# EAGLE library part DF3-10 (library con-hirose)
Single row connector 2mm 10 way
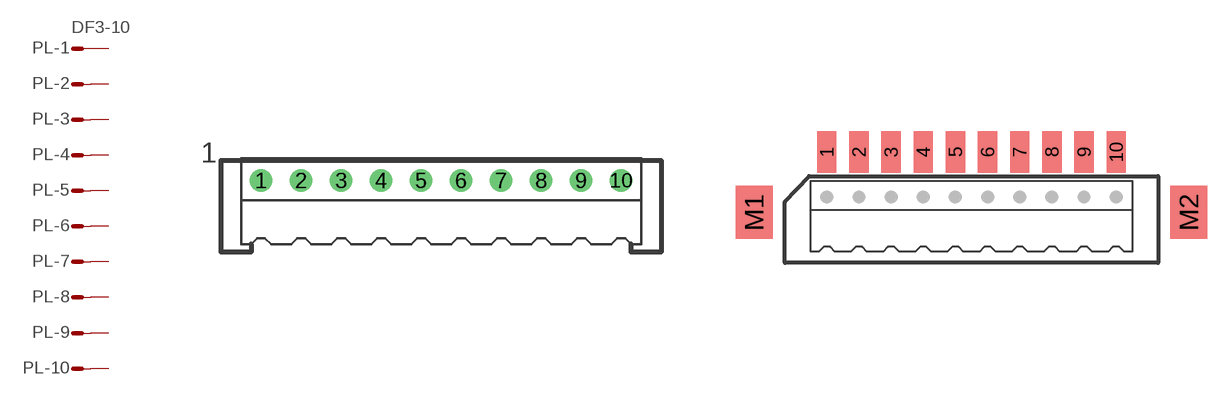
[diagram p9: symbol with the pads of DF3P-10; footprints DF3P-10, DF3DZ-10]

Designator prefix PL; gates -1=MV -2=M -3=M -4=M -5=M -6=M -7=M -8=M -9=M -10=M

## DF3-10P  [DF3P-10]
1  -1:S  pas
2  -2:S  pas
3  -3:S  pas
4  -4:S  pas
5  -5:S  pas
6  -6:S  pas
7  -7:S  pas
8  -8:S  pas
9  -9:S  pas
10  -10:S  pas

## DF3-10DZ  [DF3DZ-10]
Pads as for DF3P-10

## DF3-10R  [DF3R-10]
Pads as for DF3P-10

## Footprint DF3P-10 (pad centres in mm)
Single row connector 2mm 10 way
drill 0.6 round: 1 -9,1; 2 -7,1; 3 -5,1; 4 -3,1; 5 -1,1; 6 1,1; 7 3,1; 8 5,1; 9 7,1; 10 9,1

## Footprint DF3DZ-10 (pad centres in mm)
Single row SMT connector 2mm 10 way
smd 1.2 x 2.6: 1 -9,4.1; 2 -7,4.1; 3 -5,4.1; 4 -3,4.1; 5 -1,4.1; 6 1,4.1; 7 3,4.1; 8 5,4.1; 9 7,4.1; 10 9,4.1
smd 2.3 x 3.3: M1 -13.52,0.35; M2 13.52,0.35

## Footprint DF3R-10 (pad centres in mm)
Single row connector 2mm 10 way
drill 0.6 round: 1 -9,1.8; 2 -7,1.8; 3 -5,1.8; 4 -3,1.8; 5 -1,1.8; 6 1,1.8; 7 3,1.8; 8 5,1.8; 9 7,1.8; 10 9,1.8